# Altium schematic symbol library H-Bridge-Driver.SchLib: 4 symbols
Pins are listed as number, name and electrical type; pins without a type are passive.

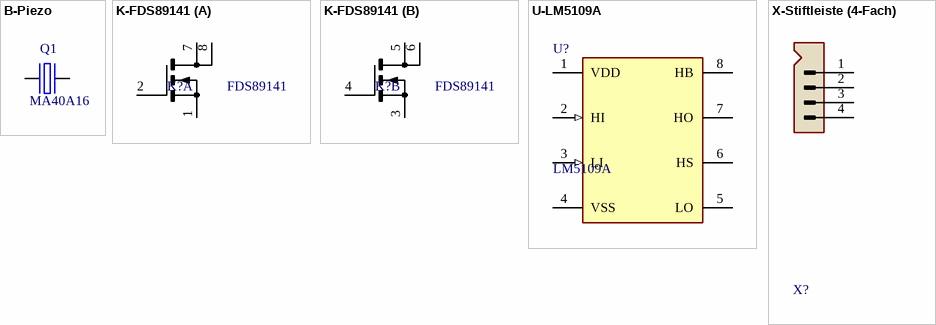
[diagram p0: symbols B-Piezo to X-Stiftleiste (4-Fach)]

## B-Piezo
designator Q1, comment MA40A16
Ultrasonic Transducer; Bauteilwert: MA40A16 (40kHz, 16mm); aliExpress: 32890177031; Stückpreis: 0.17; Beschreibung: Ultrasonic Transducer; JLC-Parts: C115962; ComponentLink1Description: Datasheet
pins: 1, 2

## K-FDS89141
designator K?, comment FDS89141
Dual N-Channel MOSFET; Stückpreis: 1.90; Bauteilwert: FDS89141; Beschreibung: Dual N-Channel MOSFET; Digikey: FDS89141CT-ND; Farnell: 2083349; Mouser: 512-FDS89141; ComponentLink1Description: Datasheet; ComponentLink1URL: https://datasheet.lcsc.com/szlcsc/1810201610_Sinopower-Semicon-APM4953KC-TRG_C20897.pdf; JLC-Parts: C606116
footprint SMD IC SOIC-8
part A pins: 1 S1, 2 G1, 7 D1, 8 D1
part B pins: 3 S2, 4 G2, 5 D2, 6 D2

## U-LM5109A
designator U?, comment LM5109A
High Voltage 1A Peak Half Bridge Gate Driver; Component Description: High Voltage Gate Driver; ComponentLink1Description: Datasheet; ComponentLink1URL: https://www.ti.com/lit/ds/symlink/lm5109a.pdf?HQS=dis-mous-null-mousermode-dsf-pf-null-wwe&ts=1646723200072&ref_url=https%253A%252F%252Fwww.mouser.ch%252F; Digikey: LM5109AMA/NOPB-ND; Component Value: LM5109A; Farnell: 3005775; JLC-Parts: C129332; Mouser: 926-LM5109AMA/NOPB
footprint SMD IC SOIC-8
pins: 1 VDD (power), 2 HI (in), 3 LI (in), 4 VSS (power), 5 LO, 6 HS, 7 HO, 8 HB

## X-Stiftleiste (4-Fach)
designator X?, comment Stiftleiste (4-Fach)  (value not drawn)
Bauteilwert: 4-Pol; Stückpreis: 0.10; Beschreibung: Stiftleiste
footprint THT Stiftleiste 1x14
pins: 1, 2, 3, 4